# Altium footprint library PcbLibLukas_New.PcbLib: 31 footprints (part 2 of 2)
Each footprint in its own frame and in the unit in brackets; x right, y up, seen from the top. Pads: shape width x height; smd on the part's side, far side on the other; paste and mask are expansions set on the pad; w line width, h text height; cw(c..) or ccw(c..) is an arc to the next point about the centre after c.
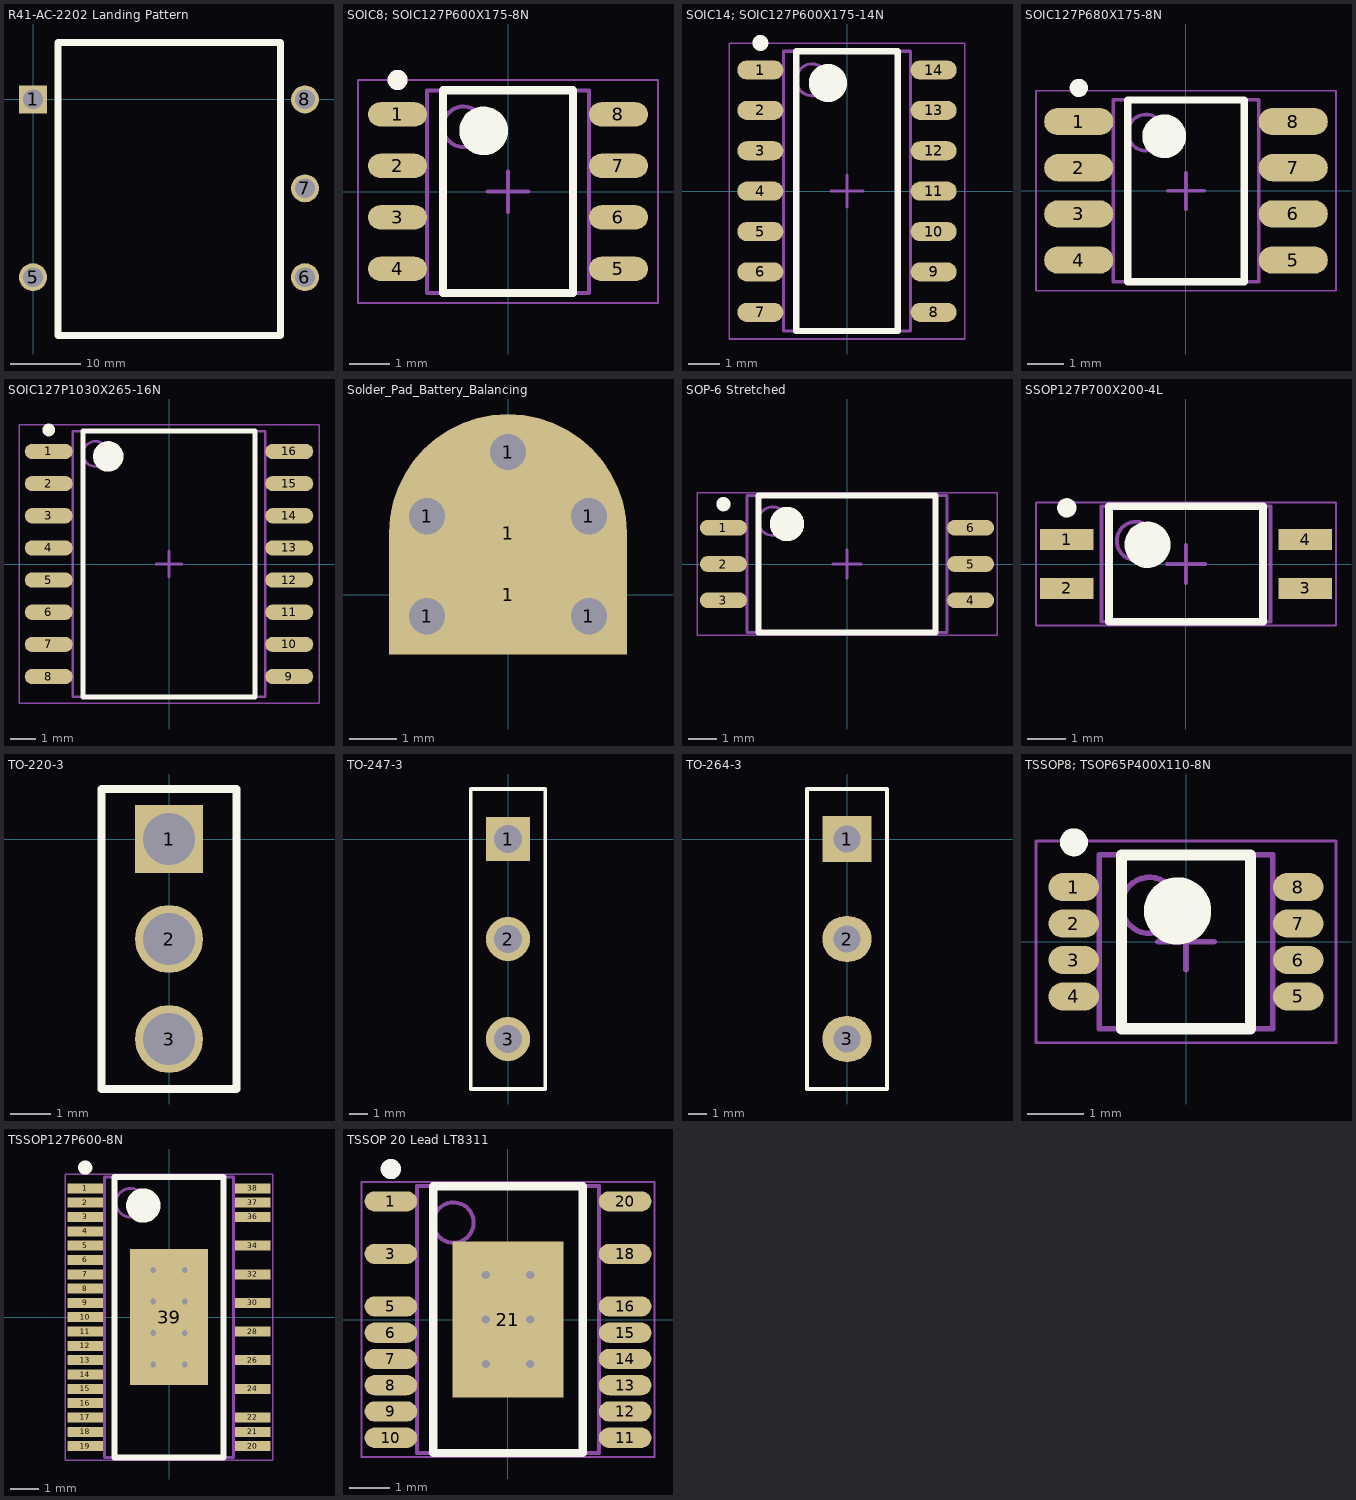
[diagram p1: the footprints below, top view; thin cyan lines are the x and y axes]

## R41-AC-2202 Landing Pattern [mm]
pads (5):
  rect 4x4 hole 2.8: 1(0,0)
  round 4 hole 2.8: 5(0,-25.4) 6(38.85,-25.4) 7(38.85,-12.7) 8(38.85,0)
Top Overlay:
  lines w1: 3.6,-33.7 3.6,8.1 20.85,8.1 35.35,8.1 35.35,-33.7 3.6,-33.7

## SOIC8; SOIC127P600X175-8N [mm] "SOIC, 8-Leads, Body 4,90x3,90mm, Pitch 1,27mm, IPC Medium Density"
height 1.75
pads (8):
  oval 1.45x0.6 smd: 1(-2.725,1.905) 2(-2.725,0.635) 3(-2.725,-0.635) 4(-2.725,-1.905) 5(2.725,-1.905) 6(2.725,-0.635) 7(2.725,0.635) 8(2.725,1.905)
Top Overlay:
  circle w0.6: c-0.6,1.5 r0.3
  circle w0.25: c-2.725,2.755 r0.125
  lines w0.2: -1.6,-2.5 1.6,-2.5 1.6,2.5 -1.6,2.5 -1.6,-2.5
Mechanical 13:
  circle w0.1: c-1.1,1.6 r0.5
  lines w0.1: -2,-2.5 2,-2.5 2,2.5 -2,2.5 -2,-2.5
Mechanical 15:
  lines w0.05: -3.7,-2.75 3.7,-2.75 3.7,2.75 -3.7,2.75 -3.7,-2.75
  lines w0.1: -0.5,0 0.5,0 ; 0,-0.5 0,0.5
3D body: height 1.75, standoff 0.1, extent -2,-2.5 2,2.5

## SOIC14; SOIC127P600X175-14N [mm] "SOIC, 14-Leads, Body 8,65x3,90mm, Pitch 1,27mm, IPC Medium Density"
height 1.75
pads (14):
  oval 1.45x0.6 smd: 1(-2.725,3.81) 2(-2.725,2.54) 3(-2.725,1.27) 4(-2.725,0) 5(-2.725,-1.27) 6(-2.725,-2.54) 7(-2.725,-3.81) 8(2.725,-3.81) 9(2.725,-2.54) 10(2.725,-1.27) 11(2.725,0) 12(2.725,1.27) 13(2.725,2.54) 14(2.725,3.81)
Top Overlay:
  circle w0.25: c-2.725,4.66 r0.125
  circle w0.6: c-0.6,3.4 r0.3
  lines w0.2: -1.6,-4.4 -1.6,4.4 1.6,4.4 1.6,-4.4 -1.6,-4.4
Mechanical 13:
  circle w0.1: c-1.1,3.5 r0.5
  lines w0.1: -2,-4.4 -2,4.4 2,4.4 2,-4.4 -2,-4.4
Mechanical 15:
  lines w0.05: -3.7,-4.65 -3.7,4.65 3.7,4.65 3.7,-4.65 -3.7,-4.65
  lines w0.1: -0.5,0 0.5,0 ; 0,-0.5 0,0.5
3D body "SOIC14; SOIC127P600X175-14N.step": height 1.75, standoff 0, extent -3,-4.4 3,4.4

## SOIC127P680X175-8N [mm] "SOIC, 8-Leads, Body 4,90x3,95mm, Pitch 1,27mm, IPC Medium Density"
height 1.75
pads (8):
  oval 1.9x0.75 smd: 1(-2.95,1.905) 2(-2.95,0.635) 3(-2.95,-0.635) 4(-2.95,-1.905) 5(2.95,-1.905) 6(2.95,-0.635) 7(2.95,0.635) 8(2.95,1.905)
Top Overlay:
  circle w0.6: c-0.6,1.5 r0.3
  circle w0.25: c-2.95,2.83 r0.125
  lines w0.2: -1.6,-2.5 1.6,-2.5 1.6,2.5 -1.6,2.5 -1.6,-2.5
Mechanical 13:
  circle w0.1: c-1.1,1.6 r0.5
  lines w0.1: -2,-2.5 2,-2.5 2,2.5 -2,2.5 -2,-2.5
Mechanical 15:
  lines w0.05: -4.125,-2.75 4.125,-2.75 4.125,2.75 -4.125,2.75 -4.125,-2.75
  lines w0.1: -0.5,0 0.5,0 ; 0,-0.5 0,0.5
3D body: height 1.75, standoff 0.1, extent -2,-2.5 2,2.5

## SOIC127P1030X265-16N [mm] "SOIC, 16-Leads, Body 10,30x7,50mm, Pitch 1,27mm, IPC Medium Density"
height 2.65
pads (16):
  oval 1.9x0.6 smd: 1(-4.75,4.445) 2(-4.75,3.175) 3(-4.75,1.905) 4(-4.75,0.635) 5(-4.75,-0.635) 6(-4.75,-1.905) 7(-4.75,-3.175) 8(-4.75,-4.445) 9(4.75,-4.445) 10(4.75,-3.175) 11(4.75,-1.905) 12(4.75,-0.635) 13(4.75,0.635) 14(4.75,1.905) 15(4.75,3.175) 16(4.75,4.445)
Top Overlay:
  circle w0.6: c-2.4,4.25 r0.3
  circle w0.25: c-4.75,5.295 r0.125
  lines w0.2: -3.4,-5.25 3.4,-5.25 3.4,5.25 -3.4,5.25 -3.4,-5.25
Mechanical 13:
  circle w0.1: c-2.9,4.35 r0.5
  lines w0.1: -3.8,-5.25 3.8,-5.25 3.8,5.25 -3.8,5.25 -3.8,-5.25
Mechanical 15:
  lines w0.05: -5.925,-5.5 5.925,-5.5 5.925,5.5 -5.925,5.5 -5.925,-5.5
  lines w0.1: -0.5,0 0.5,0 ; 0,-0.5 0,0.5
3D body: height 2.65, standoff 0.1, extent -3.8,-5.25 3.8,5.25

## Solder_Pad_Battery_Balancing [mil]
pads (7):
  round 60 hole 30: 1(-66.93,-17.72) 1(-66.93,64.96) 1(0,118.11) 1(66.93,-17.72) 1(66.93,64.96)
  rect 196.85x98.43 all layers, no hole: 1(0,0)
  round 196.85 all layers, no hole: 1(0,51.18)

## SolderPoint WIre [mm]

## SOP-6 Stretched [mm] "ACPL-P346"
height 3.3
pads (6):
  oval 1.65x0.55 smd: 1(-4.325,1.27) 2(-4.325,0) 3(-4.325,-1.27) 4(4.325,-1.27) 5(4.325,0) 6(4.325,1.27)
Top Overlay:
  circle w0.25: c-4.325,2.095 r0.125
  circle w0.6: c-2.1,1.4 r0.3
  lines w0.2: -3.1,-2.4 -3.1,2.4 3.1,2.4 3.1,-2.4 -3.1,-2.4
Mechanical 13:
  circle w0.1: c-2.6,1.5 r0.5
  lines w0.1: -3.5,-2.4 -3.5,2.4 3.5,2.4 3.5,-2.4 -3.5,-2.4
Mechanical 15:
  lines w0.05: -5.25,-2.5 -5.25,2.5 5.25,2.5 5.25,-2.5 -5.25,-2.5
  lines w0.1: -0.5,0 0.5,0 ; 0,-0.5 0,0.5
3D body: height 3.3, standoff 0.1, extent -3.5,-2.4 3.5,2.4

## SSOP127P700X200-4L [mm] "SSOP, 4-Leads, Body 2,70x4,40mm, Pitch 1,27mm, IPC High Density"
height 2
pads (4):
  rect 1.4x0.55 smd: 1(-3.1,0.635) 2(-3.1,-0.635) 3(3.1,-0.635) 4(3.1,0.635)
Top Overlay:
  circle w0.6: c-1,0.5 r0.3
  circle w0.25: c-3.1,1.46 r0.125
  lines w0.2: -2,-1.5 2,-1.5 2,1.5 -2,1.5 -2,-1.5
Mechanical 13:
  circle w0.1: c-1.3,0.6 r0.5
  lines w0.1: -2.2,-1.5 2.2,-1.5 2.2,1.5 -2.2,1.5 -2.2,-1.5
Mechanical 15:
  lines w0.05: -3.9,-1.6 3.9,-1.6 3.9,1.6 -3.9,1.6 -3.9,-1.6
  lines w0.1: -0.5,0 0.5,0 ; 0,-0.5 0,0.5
3D body: height 2, standoff 0.1, extent -2.2,-1.5 2.2,1.5

## TO-220-3 [mm]
pads (3):
  rect 1.7x1.7 hole 1.3: 1(0,0)
  round 1.7 hole 1.3: 2(0,-2.5) 3(0,-5)
Top Overlay:
  lines w0.2: -0.625,1.25 1.685,1.25 1.685,-6.25 -1.685,-6.25 -1.685,1.25 0.625,1.25

## TO-247-3 [mm]
pads (3):
  rect 2.4x2.4 hole 1.5: 1(0,0)
  round 2.4 hole 1.5: 2(0,-5.44) 3(0,-10.88)
Top Overlay:
  lines w0.2: -1.36,2.72 2.035,2.72 2.035,-13.6 -2.035,-13.6 -2.035,2.72 1.36,2.72

## TO-264-3 [mm]
pads (3):
  rect 2.7x2.5 / inner rect 2.5x2.5 / far side rect 2.7x2.5 hole 1.5: 1(0,0)
  oval 2.7x2.5 / inner round 2.5 / far side oval 2.7x2.5 hole 1.5: 2(0,-5.46) 3(0,-10.92)
Top Overlay:
  lines w0.2: -1.365,2.73 2.185,2.73 2.185,-13.65 -2.185,-13.65 -2.185,2.73 1.365,2.73

## TSSOP8; TSOP65P400X110-8N [mm] "TSOP, 8-Leads, Body 3,00x3,00mm, Pitch 0,65mm, IPC Medium Density"
height 1.1
pads (8):
  oval 0.9x0.5 smd: 1(-2,0.975) 2(-2,0.325) 3(-2,-0.325) 4(-2,-0.975) 5(2,-0.975) 6(2,-0.325) 7(2,0.325) 8(2,0.975)
Top Overlay:
  circle w0.6: c-0.15,0.55 r0.3
  circle w0.25: c-2,1.775 r0.125
  lines w0.2: -1.15,-1.55 1.15,-1.55 1.15,1.55 -1.15,1.55 -1.15,-1.55
Mechanical 13:
  circle w0.1: c-0.65,0.65 r0.5
  lines w0.1: -1.55,-1.55 1.55,-1.55 1.55,1.55 -1.55,1.55 -1.55,-1.55
Mechanical 15:
  lines w0.05: -2.675,-1.8 2.675,-1.8 2.675,1.8 -2.675,1.8 -2.675,-1.8
  lines w0.1: -0.5,0 0.5,0 ; 0,-0.5 0,0.5
3D body: height 1.1, standoff 0.15, extent -1.55,-1.55 1.55,1.55

## TSSOP127P600-8N [mm] "TSSOP 38 Lead LT 3752-1 w. missing Leads for Spacing"
height 1.2
pads (32):
  rect 1.25x0.35 smd: 1(-2.925,4.5) 2(-2.925,4) 3(-2.925,3.5) 4(-2.925,3) 5(-2.925,2.5) 6(-2.925,2) 7(-2.925,1.5) 8(-2.925,1) 9(-2.925,0.5) 10(-2.925,0) 11(-2.925,-0.5) 12(-2.925,-1) 13(-2.925,-1.5) 14(-2.925,-2) 15(-2.925,-2.5) 16(-2.925,-3) 17(-2.925,-3.5) 18(-2.925,-4) 19(-2.925,-4.5) 20(2.925,-4.5) 21(2.925,-4) 22(2.925,-3.5) 24(2.925,-2.5) 26(2.925,-1.5) 28(2.925,-0.5) 30(2.925,0.5) 32(2.925,1.5) 34(2.925,2.5) 36(2.925,3.5) 37(2.925,4) 38(2.925,4.5)
  rect 2.74x4.75 smd: 39(0,0)
via 0.55,-1.65 diameter 0.5 hole 0.2
via -0.55,-1.65 diameter 0.5 hole 0.2
via 0.55,-0.55 diameter 0.5 hole 0.2
via -0.55,-0.55 diameter 0.5 hole 0.2
via 0.55,0.55 diameter 0.5 hole 0.2
via -0.55,0.55 diameter 0.5 hole 0.2
via 0.55,1.65 diameter 0.5 hole 0.2
via -0.55,1.65 diameter 0.5 hole 0.2
Top Overlay:
  circle w0.6: c-0.9,3.9 r0.3
  circle w0.25: c-2.925,5.225 r0.125
  lines w0.2: -1.9,-4.9 1.9,-4.9 1.9,4.9 -1.9,4.9 -1.9,-4.9
Mechanical 13:
  circle w0.1: c-1.35,4 r0.5
  lines w0.1: -2.25,-4.9 2.25,-4.9 2.25,4.9 -2.25,4.9 -2.25,-4.9
Mechanical 15:
  lines w0.05: -3.625,-5 3.625,-5 3.625,5 -3.625,5 -3.625,-5
  lines w0.1: -0.5,0 0.5,0 ; 0,-0.5 0,0.5
3D body: height 1.2, standoff 0.1, extent -2.25,-4.9 2.25,4.9

## TSSOP 20 Lead LT8311 [mm] "TSSOP 20 Lead LT8311 with missing pins for clearance"
height 1.2
pads (17):
  oval 1.3x0.5 smd: 1(-2.9,2.925) 3(-2.9,1.625) 5(-2.9,0.325) 6(-2.9,-0.325) 7(-2.9,-0.975) 8(-2.9,-1.625) 9(-2.9,-2.275) 10(-2.9,-2.925) 11(2.9,-2.925) 12(2.9,-2.275) 13(2.9,-1.625) 14(2.9,-0.975) 15(2.9,-0.325) 16(2.9,0.325) 18(2.9,1.625) 20(2.9,2.925)
  rect 2.74x3.86 smd: 21(0,0)
via -0.55,1.1 diameter 0.5 hole 0.2
via 0.55,1.1 diameter 0.5 hole 0.2
via -0.55,0 diameter 0.5 hole 0.2
via 0.55,0 diameter 0.5 hole 0.2
via -0.55,-1.1 diameter 0.5 hole 0.2
via 0.55,-1.1 diameter 0.5 hole 0.2
Top Overlay:
  circle w0.25: c-2.9,3.725 r0.125
  lines w0.2: -1.85,-3.3 -1.85,3.3 1.85,3.3 1.85,-3.3 -1.85,-3.3
Mechanical 13:
  circle w0.1: c-1.35,2.4 r0.5
  lines w0.1: -2.25,-3.3 -2.25,3.3 2.25,3.3 2.25,-3.3 -2.25,-3.3
Mechanical 15:
  lines w0.05: -3.625,-3.4 -3.625,3.4 3.625,3.4 3.625,-3.4 -3.625,-3.4
  lines w0.1: -0.5,0 0.5,0 ; 0,-0.5 0,0.5
3D body: height 1.2, standoff 0.1, extent -2.25,-3.3 2.25,3.3